# EAGLE library part PIC18F2*J50? (library mchp-pic18)
28 pins USB microcontrollers from 16k to 64k and 4k Ram Description PIC18F24J50 (16K Flash, 3776 bytes RAM) PIC18F25J50 (32K Flash, 3776 bytes RAM) PIC18F26J50 (64K Flash, 3776 bytes RAM) Power Management Features with nanoWatt XLP™ for Extreme Low-Power: • Deep Sleep mode: CPU off, Peripherals off, Currents Down to 13 nA and 850 nA with RTCC: - Able to wake-up on external triggers, programmable WDT or RTCC alarm - Ultra Low-Power Wake-up (ULPWU) • Sleep mode: CPU off, Peripherals off, SRAM on, Fast Wake-up, Currents Down to 105 nA, Typical • Idle: CPU off, Peripherals on, Currents Down to 2.3 A, Typical • Run: CPU on, Peripherals on, Currents Down to 6.2 A, Typical • Timer1 Oscillator w/RTCC: 1 A, 32 kHz, Typical • Watchdog Timer: 0.8 µA, 2V, Typical Special Microcontroller Features: • Low-Power, High-Speed CMOS Flash Technology • C Compiler Optimized Architecture for Re-Entrant Code • Priority Levels for Interrupts • Self-Programmable under Software Control • 8 x 8 Single-Cycle Hardware Multiplier • Extended Watchdog Timer (WDT): - Programmable period from 4 ms to 131s • Single-Supply In-Circuit Serial Programming™ (ICSP™) via two pins • In-Circuit Debug (ICD) w/Three Breakpoints via 2 Pins • Operating Voltage Range of 2.0V to 3.6V • On-Chip 2.5V Regulator • Flash Program Memory of 10,000 Erase/Write Cycles Minimum and 20-Year Data Retention Universal Serial Bus (USB) Features • USB V2.0 Compliant • Full Speed (12 Mbps) and Low Speed (1.5 Mbps) • Supports Control, Interrupt, Isochronous and B ulk Transfers • Supports up to 32 Endpoints (16 bidirectional) • USB module can use any RAM Location on the Device as USB Endpoint Buffers • On-Chip USB Transceiver with Crystal-less operation Flexible Oscillator Structure: • High-Precision Internal Oscillator (±0.15% typ.) for USB • Two External Clock modes, up to 48 MHz (12 MIPS) • Low-Power, 31 kHz Internal RC Oscillator • Tunable Internal Oscillator (31 kHz to 8 MHz, or up to 48 MHz with PLL) • Secondary Oscillator using Timer1 @ 32 kHz • Fail-Safe Clock Monitor: - Allows for safe shutdown if any clock stops • Two-Speed Oscillator Start-up • Programmable Reference Clock Output Generator Ref: Datasheets <http://ww1.microchip.com/downloads/en/DeviceDoc/39931d.pdf>
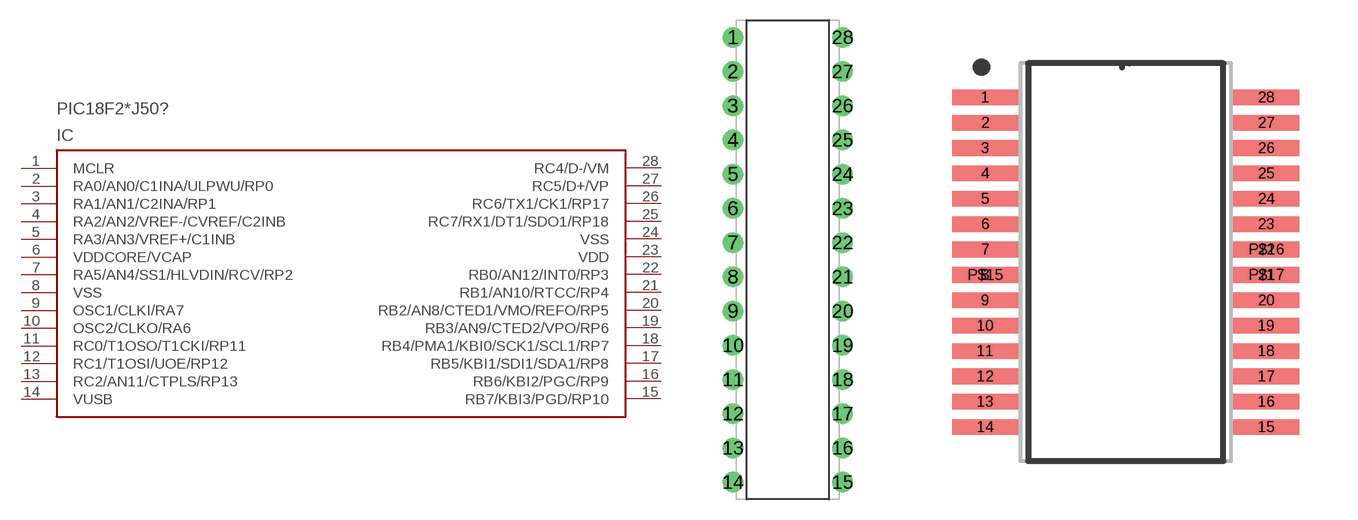
[diagram p2: symbol with the pads of DIP254P310X1365X200-28N; footprints DIP254P310X1365X200-28N, SOP65P780X1020X200-28N]

Designator prefix IC

## PIC18F24J50-I/SP, PIC18F25J50-I/SP, PIC18F26J50-I/SP  [DIP254P310X1365X200-28N]
1  MCLR
2  RA0/AN0/C1INA/ULPWU/RP0
3  RA1/AN1/C2INA/RP1
4  RA2/AN2/VREF-/CVREF/C2INB
5  RA3/AN3/VREF+/C1INB
6  VDDCORE/VCAP  pwr
7  RA5/AN4/SS1/HLVDIN/RCV/RP2
8  VSS  pwr
9  OSC1/CLKI/RA7
10  OSC2/CLKO/RA6
11  RC0/T1OSO/T1CKI/RP11
12  RC1/T1OSI/UOE/RP12
13  RC2/AN11/CTPLS/RP13
14  VUSB  pwr
15  RB7/KBI3/PGD/RP10
16  RB6/KBI2/PGC/RP9
17  RB5/KBI1/SDI1/SDA1/RP8
18  RB4/PMA1/KBI0/SCK1/SCL1/RP7
19  RB3/AN9/CTED2/VPO/RP6
20  RB2/AN8/CTED1/VMO/REFO/RP5
21  RB1/AN10/RTCC/RP4
22  RB0/AN12/INT0/RP3
23  VDD  pwr
24  VSS  pwr
25  RC7/RX1/DT1/SDO1/RP18
26  RC6/TX1/CK1/RP17
27  RC5/D+/VP
28  RC4/D-/VM

## PIC18F24J50/SS, PIC18F25J50/SS, PIC18F26J50/SS  [SOP65P780X1020X200-28N]
Pads as for DIP254P310X1365X200-28N

## PIC18F24J50/SO, PIC18F25J50/SO, PIC18F26J50/SO  [SOIC127P1030X1790X265-28N]
Pads as for DIP254P310X1365X200-28N

## Footprint DIP254P310X1365X200-28N (pad centres in mm)
0.1"Pitch, Dual Inline Package (DIP28) 0.1inch Pitch 14 x 2 28 Pin count 1.365inch L x 0.310inch W x 0.2inch H -----------------------------------------------
drill 1.016: 1 -4.064,16.51; 2 -4.064,13.97; 3 -4.064,11.43; 4 -4.064,8.89; 5 -4.064,6.35; 6 -4.064,3.81; 7 -4.064,1.27; 8 -4.064,-1.27; 9 -4.064,-3.81; 10 -4.064,-6.35; 11 -4.064,-8.89; 12 -4.064,-11.43; 13 -4.064,-13.97; 14 -4.064,-16.51; 15 4.064,-16.51; 16 4.064,-13.97; 17 4.064,-11.43; 18 4.064,-8.89; 19 4.064,-6.35; 20 4.064,-3.81; 21 4.064,-1.27; 22 4.064,1.27; 23 4.064,3.81; 24 4.064,6.35; 25 4.064,8.89; 26 4.064,11.43; 27 4.064,13.97; 28 4.064,16.51

## Footprint SOP65P780X1020X200-28N (pad centres in mm)
0.65Pitch, Small Outline Package (SOP28) 0.65mm Pitch 14 x2, 28 Pin count 10.20mm L x 7.80mm W x 2mm H ---------------------------------------------
smd 1.7 x 0.4: 1 -3.6,4.225; 2 -3.6,3.575; 3 -3.6,2.925; 4 -3.6,2.275; 5 -3.6,1.625; 6 -3.6,0.975; 7 -3.6,0.325; 8 -3.6,-0.325; 9 -3.6,-0.98; 10 -3.6,-1.63; 11 -3.6,-2.28; 12 -3.6,-2.93; 13 -3.6,-3.58; 14 -3.6,-4.23; 15 3.6,-4.23; 16 3.6,-3.58; 17 3.6,-2.93; 18 3.6,-2.28; 19 3.6,-1.63; 20 3.6,-0.98; 21 3.6,-0.33; 22 3.6,0.325; 23 3.6,0.975; 24 3.6,1.625; 25 3.6,2.275; 26 3.6,2.925; 27 3.6,3.575; 28 3.6,4.225; P$15 -3.6,-0.33; P$16 3.6,0.325; P$17 3.6,-0.325

## Footprint SOIC127P1030X1790X265-28N (pad centres in mm)
1.27Pitch, Small Outline Integrade Circuit (SOIC28) 1.27mm Pitch 14 x2, 28 Pin count 17.90mm L x 10.30mm W x 2.65mm H -------------------------------------------------
smd 2 x 0.6: 1 -4.648,8.255; 2 -4.648,6.985; 3 -4.648,5.715; 4 -4.648,4.445; 5 -4.648,3.175; 6 -4.648,1.905; 7 -4.648,0.635; 8 -4.648,-0.635; 9 -4.648,-1.905; 10 -4.648,-3.175; 11 -4.648,-4.445; 12 -4.648,-5.715; 13 -4.648,-6.985; 14 -4.648,-8.255; 15 4.648,-8.255; 16 4.648,-6.985; 17 4.648,-5.715; 18 4.648,-4.445; 19 4.648,-3.175; 20 4.648,-1.905; 21 4.648,-0.635; 22 4.648,0.635; 23 4.648,1.905; 24 4.648,3.175; 25 4.648,4.445; 26 4.648,5.715; 27 4.648,6.985; 28 4.648,8.255